# Altium footprint library leonLib.PcbLib: 249 footprints (part 4 of 16)
Each footprint in its own frame and in the unit in brackets; x right, y up, seen from the top. Pads: shape width x height; smd on the part's side, far side on the other; paste and mask are expansions set on the pad; w line width, h text height; cw(c..) or ccw(c..) is an arc to the next point about the centre after c.
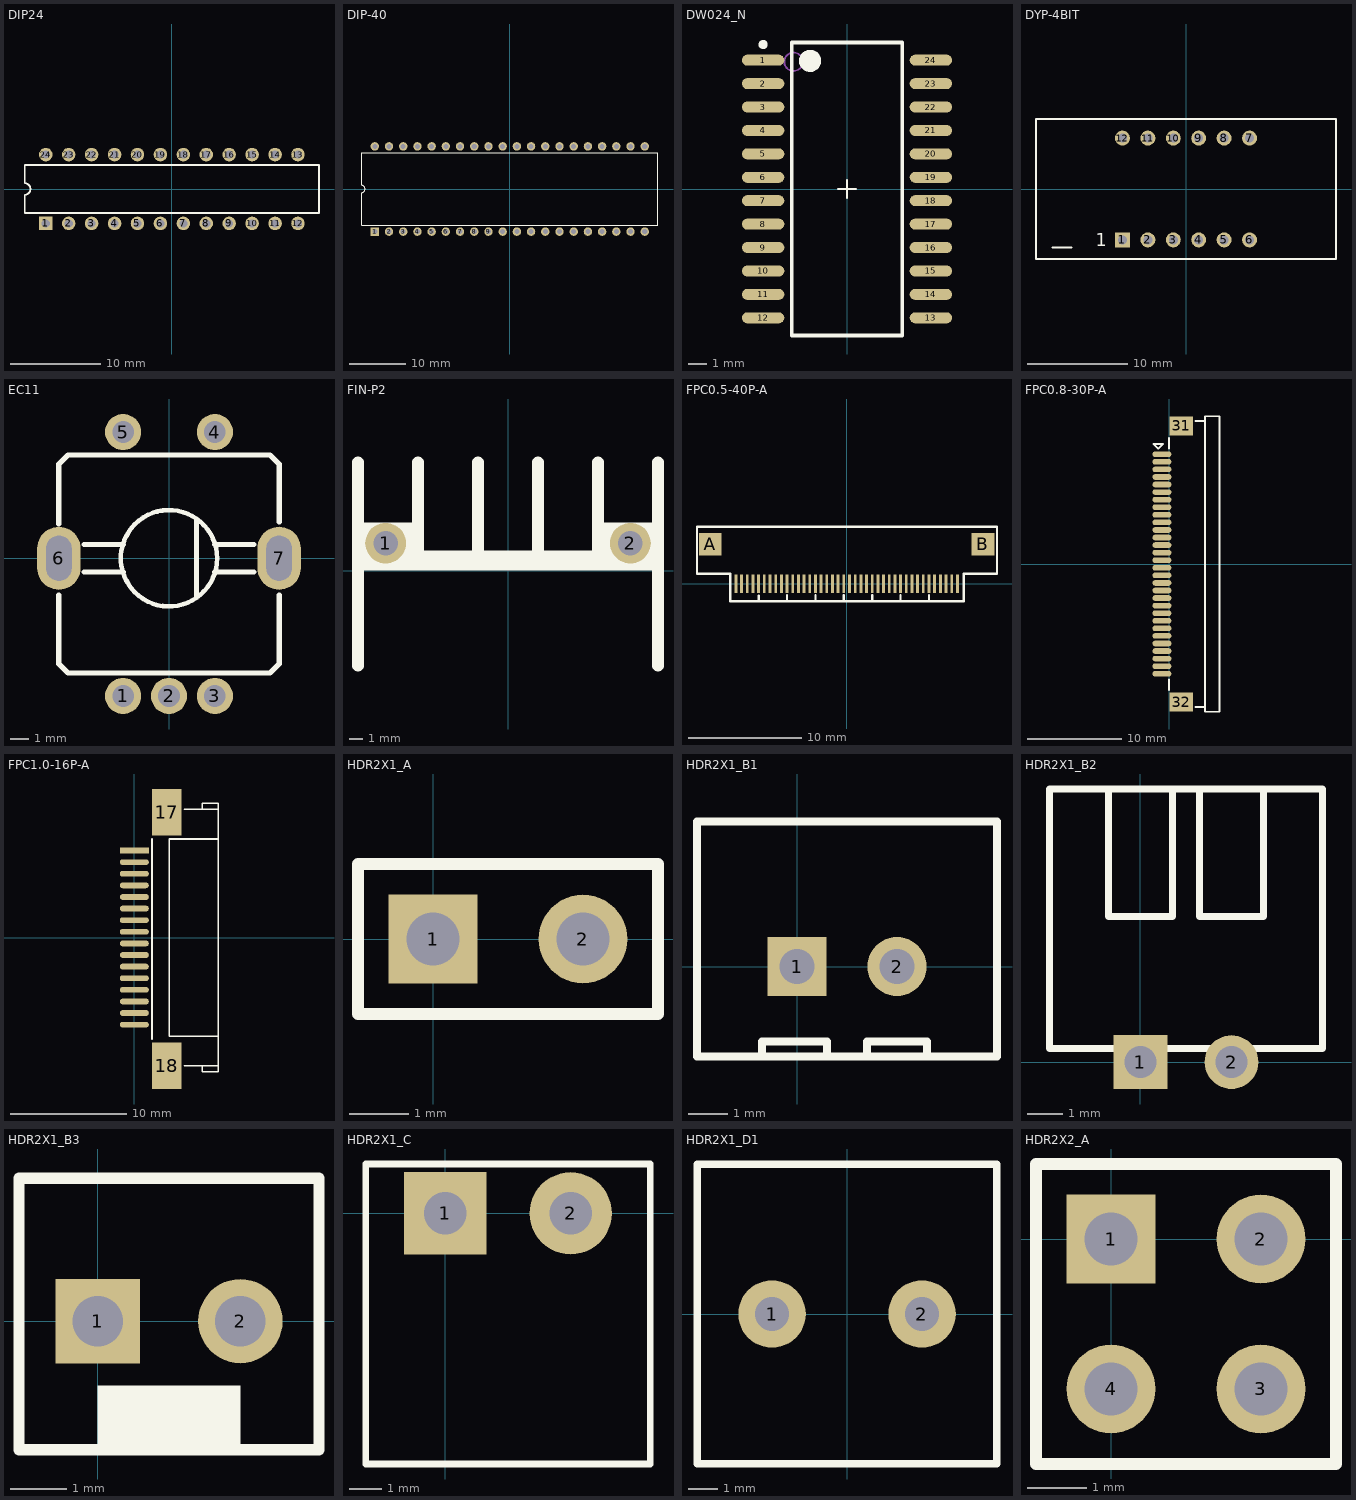
[diagram p3: the footprints below, top view; thin cyan lines are the x and y axes]

## DIP24 [mm] "DIP; 24,74ls154"
height 5.08
pads (24):
  rect 1.5x1.5 hole 0.9: 1(-13.97,-3.81)
  round 1.5 hole 0.9: 2(-11.43,-3.81) 3(-8.89,-3.81) 4(-6.35,-3.81) 5(-3.81,-3.81) 6(-1.27,-3.81) 7(1.27,-3.81) 8(3.81,-3.81) 9(6.35,-3.81) 10(8.89,-3.81) 11(11.43,-3.81) 12(13.97,-3.81) 13(13.97,3.81) 14(11.43,3.81) 15(8.89,3.81) 16(6.35,3.81) 17(3.81,3.81) 18(1.27,3.81) 19(-1.27,3.81) 20(-3.81,3.81) 21(-6.35,3.81) 22(-8.89,3.81) 23(-11.43,3.81) 24(-13.97,3.81)
Top Overlay:
  lines w0.2: -16.3,-2.65 -16.3,-0.635 ccw(c-16.3,0) -16.3,0.635 -16.3,2.65 16.3,2.65 16.3,-2.65 -16.3,-2.65

## DIP-40 [mm] "51单片机"
height 4.7
pads (40):
  rect 1.5x1.5 hole 0.9: 1(-24.13,-7.62)
  round 1.5 hole 0.9: 2(-21.59,-7.62) 3(-19.05,-7.62) 4(-16.51,-7.62) 5(-13.97,-7.62) 6(-11.43,-7.62) 7(-8.89,-7.62) 8(-6.35,-7.62) 9(-3.81,-7.62) 10(-1.27,-7.62) 11(1.27,-7.62) 12(3.81,-7.62) 13(6.35,-7.62) 14(8.89,-7.62) 15(11.43,-7.62) 16(13.97,-7.62) 17(16.51,-7.62) 18(19.05,-7.62) 19(21.59,-7.62) 20(24.13,-7.62) 21(24.13,7.62) 22(21.59,7.62) 23(19.05,7.62) 24(16.51,7.62) 25(13.97,7.62) 26(11.43,7.62) 27(8.89,7.62) 28(6.35,7.62) 29(3.81,7.62) 30(1.27,7.62) 31(-1.27,7.62) 32(-3.81,7.62) 33(-6.35,7.62) 34(-8.89,7.62) 35(-11.43,7.62) 36(-13.97,7.62) 37(-16.51,7.62) 38(-19.05,7.62) 39(-21.59,7.62) 40(-24.13,7.62)
Top Overlay:
  lines w0.2: -26.5,-6.45 26.5,-6.45 26.5,6.45 -26.5,6.45 -26.5,0.635 cw(c-26.5,0) -26.5,-0.635 -26.5,-6.45

## DW024_N [mm] "74hc154"
height 2.65
pads (24):
  oval 2.3x0.6 smd: 1(-4.55,6.985) 2(-4.55,5.715) 3(-4.55,4.445) 4(-4.55,3.175) 5(-4.55,1.905) 6(-4.55,0.635) 7(-4.55,-0.635) 8(-4.55,-1.905) 9(-4.55,-3.175) 10(-4.55,-4.445) 11(-4.55,-5.715) 12(-4.55,-6.985) 13(4.55,-6.985) 14(4.55,-5.715) 15(4.55,-4.445) 16(4.55,-3.175) 17(4.55,-1.905) 18(4.55,-0.635) 19(4.55,0.635) 20(4.55,1.905) 21(4.55,3.175) 22(4.55,4.445) 23(4.55,5.715) 24(4.55,6.985)
Top Overlay:
  circle w0.25: c-4.55,7.835 r0.125
  circle w0.6: c-2,6.95 r0.3
  lines w0.1: -0.5,0 0.5,0 ; 0,-0.5 0,0.5
  lines w0.2: -3,-7.95 -3,7.95 3,7.95 3,-7.95 -3,-7.95
Mechanical 13:
  circle w0.1: c-2.9,6.9 r0.5
3D body: height 2.65, standoff 0, extent -3.8,-7.8 3.8,7.8

## DYP-4BIT [mm] "数码管"
height 1.2
pads (12):
  rect 1.5x1.5 hole 0.9: 1(-6.35,-5.08)
  round 1.5 hole 0.9: 2(-3.81,-5.08) 3(-1.27,-5.08) 4(1.27,-5.08) 5(3.81,-5.08) 6(6.35,-5.08) 7(6.35,5.08) 8(3.81,5.08) 9(1.27,5.08) 10(-1.27,5.08) 11(-3.81,5.08) 12(-6.35,5.08)
Top Overlay:
  lines w0.2: -13.335,-5.842 -11.43,-5.842 ; -14.986,-6.985 14.986,-6.985 14.986,6.985 -14.986,6.985 -14.986,-6.985
  text "1" at -9.017,-5.715 h1.27

## EC11 [mm]
pads (7):
  round 2 hole 1.2: 1(-2.54,-7.62) 2(0,-7.62) 3(2.54,-7.62) 4(2.54,6.985) 5(-2.54,6.985)
  oval 2.4x3.5 hole 1.4 slot 2.5 at 90 deg: 6(-6.096,0) 7(6.096,0)
Top Overlay:
  circle w0.254: c0,0 r2.667
  lines w0.3: -6.096,-2.032 -6.096,-5.842 -5.588,-6.35 5.588,-6.35 6.096,-5.842 6.096,-2.032 ; -6.096,1.905 -6.096,5.207 -5.588,5.715 5.588,5.715 6.096,5.207 6.096,2.032 ; -4.699,-0.762 -2.54,-0.762 ; -4.699,0.762 -2.54,0.762 ; 1.524,-2.159 1.524,2.159 ; 2.54,-0.762 4.699,-0.762 ; 2.54,0.762 4.699,0.762

## FIN-P2 [mm] "散热片"
height 1.9
pads (2):
  round 3 hole 1.8: 1(-9.017,2.032) 2(9.017,2.032)
Top Overlay:
  rectangle: 6.629,1.27 11.049,3.556
  rectangle: -11.049,0.889 -6.629,3.556
  lines w0.85: -11.049,-7 -11.049,8 ; -6.629,0.762 -6.629,8.001 ; -2.21,0.762 -2.21,8.001 ; 2.21,0.762 2.21,8.001 ; 6.629,0.762 6.629,8.001 ; 11.049,-7 11.049,8
  lines w1.5: -10.668,0.762 10.668,0.762

## FPC0.5-40P-A [mm]
height 1
pads (42):
  rect 0.25x1.6 smd: 1(-9.78,0.011) 2(-9.28,0.011) 3(-8.78,0.011) 4(-8.28,0.011) 5(-7.78,0.011) 6(-7.28,0.011) 7(-6.78,0.011) 8(-6.28,0.011) 9(-5.78,0.011) 10(-5.28,0.011) 11(-4.78,0.011) 12(-4.28,0.011) 13(-3.78,0.011) 14(-3.28,0.011) 15(-2.78,0.011) 16(-2.28,0.011) 17(-1.78,0.011) 18(-1.28,0.011) 19(-0.78,0.011) 20(-0.28,0.011) 21(0.22,0.011) 22(0.72,0.011) 23(1.22,0.011) 24(1.72,0.011) 25(2.22,0.011) 26(2.72,0.011) 27(3.22,0.011) 28(3.72,0.011) 29(4.22,0.011) 30(4.72,0.011) 31(5.22,0.011) 32(5.72,0.011) 33(6.22,0.011) 34(6.72,0.011) 35(7.22,0.011) 36(7.72,0.011) 37(8.22,0.011) 38(8.72,0.011) 39(9.22,0.011) 40(9.72,0.011)
  rect 2x2 smd: A(-12.029,3.5) B(11.971,3.5)
Top Overlay:
  lines w0.2: -10.287,-1.524 -10.287,0.889 -13.208,0.889 -13.208,5.036 13.208,5.036 13.208,1.27 13.208,0.889 10.287,0.889 10.287,-1.514 -10.287,-1.514 ; -7.78,-1.514 -7.78,-1.014 ; -5.28,-1.514 -5.28,-0.989 ; -2.78,-1.489 -2.78,-0.989 ; -0.28,-1.464 -0.28,-0.964 ; 2.22,-1.464 2.22,-0.964 ; 4.72,-1.464 4.72,-0.964 ; 7.22,-1.464 7.22,-0.964

## FPC0.8-30P-A [mm] "FPC"
height 1.2
pads (32):
  oval 2x0.6 smd: 1(-0.762,11.6) 2(-0.762,10.8) 3(-0.762,10) 4(-0.762,9.2) 5(-0.762,8.4) 6(-0.762,7.6) 7(-0.762,6.8) 8(-0.762,6) 9(-0.762,5.2) 10(-0.762,4.4) 11(-0.762,3.6) 12(-0.762,2.8) 13(-0.762,2) 14(-0.762,1.2) 15(-0.762,0.4) 16(-0.762,-0.4) 17(-0.762,-1.2) 18(-0.762,-2) 19(-0.762,-2.8) 20(-0.762,-3.6) 21(-0.762,-4.4) 22(-0.762,-5.2) 23(-0.762,-6) 24(-0.762,-6.8) 25(-0.762,-7.6) 26(-0.762,-8.4) 27(-0.762,-9.2) 28(-0.762,-10) 29(-0.762,-10.8) 30(-0.762,-11.6)
  rect 2.5x2 smd: 31(1.27,14.605) 32(1.27,-14.605)
Top Overlay:
  lines w0.2: 0,-13.335 0,-12.192 ; 0,12.192 0,13.335 ; 2.794,-15.113 3.81,-15.113 ; 2.794,15.113 3.81,15.113 ; 3.81,-15.113 3.81,-15.621 5.334,-15.621 5.334,15.621 3.81,15.621 3.81,15.113 ; 3.81,-15.113 3.81,15.113 ; -1.651,12.7 -1.524,12.7 -0.635,12.7 -1.143,12.192 -1.651,12.7

## FPC1.0-16P-A [mm] "FPC"
height 1.2
pads (18):
  rect 2.5x0.5 smd: 1(0,7.493)
  oval 2.5x0.5 smd: 2(0,6.493) 3(0,5.493) 4(0,4.493) 5(0,3.493) 6(0,2.493) 7(0,1.493) 8(0,0.493) 9(0,-0.507) 10(0,-1.507) 11(0,-2.507) 12(0,-3.507) 13(0,-4.507) 14(0,-5.507) 15(0,-6.507) 16(0,-7.507)
  rect 2.5x4 smd: 17(2.794,10.795) 18(2.794,-11.049)
Top Overlay:
  lines w0.15: 1.524,-8.763 1.524,8.509 ; 4.318,-11.049 7.224,-11.049 ; 4.318,11.049 7.224,11.049 ; 5.842,11.049 5.842,11.557 7.224,11.557 7.224,11.049 ; 6.096,-11.049 5.842,-11.049 5.842,-11.557 7.224,-11.557 7.224,-11.049 ; 7.224,-8.507 3,-8.507 3,8.493 7.224,8.493 ; 7.224,-11.049 7.224,11.049

## HDR2X1_A [mm] "Connector; Header; 2 Position"
height 7.01
pads (2):
  rect 1.5x1.5 hole 0.9: 1(0,0)
  round 1.5 hole 0.9: 2(2.54,0)
Top Overlay:
  lines w0.2: -1.27,-1.27 -1.27,1.27 3.81,1.27 3.81,-1.27 -1.27,-1.27

## HDR2X1_B1 [mm] "Connector; Header; 4 Position"
height 1.6
pads (2):
  rect 1.5x1.5 hole 0.9: 1(0,0)
  round 1.5 hole 0.9: 2(2.54,0)
Top Overlay:
  lines w0.2: -0.889,-2.286 -0.889,-1.905 0.762,-1.905 0.762,-2.286 ; 1.778,-2.286 1.778,-1.905 3.302,-1.905 3.302,-2.286 ; -2.54,-2.286 -2.54,3.683 5.08,3.683 5.08,-2.286 -2.54,-2.286
3D body: height 1.5, standoff 0, extent -2.413,-2.159 5.08,3.556

## HDR2X1_B2 [mm] "Connector; Header; 4 Position"
height 1.6
pads (2):
  rect 1.5x1.5 hole 0.9: 1(0,0)
  round 1.5 hole 0.9: 2(2.54,0)
Top Overlay:
  lines w0.2: -0.889,7.62 -0.889,4.064 0.889,4.064 0.889,7.62 ; 1.651,7.62 1.651,4.064 3.429,4.064 3.429,7.62 ; -2.54,0.381 5.08,0.381 5.08,7.62 -2.54,7.62 -2.54,0.381
3D body: height 1.5, standoff 0, extent -2.54,0.381 5.08,7.62

## HDR2X1_B3 [mm] "Connector; Header; 4 Position"
height 1.6
pads (2):
  rect 1.5x1.5 hole 0.9: 1(0,0)
  round 1.5 hole 0.9: 2(2.54,0)
Top Overlay:
  rectangle: 0,-2.286 2.54,-1.143
  lines w0.2: -1.397,-2.286 -1.397,2.54 3.937,2.54 3.937,-2.286 -1.397,-2.286
3D body: height 1.5, standoff 0, extent -1.397,-2.286 3.937,2.54

## HDR2X1_C [mm] "3.81接插件"
height 7
pads (2):
  rect 2.5x2.5 hole 1.3: 1(0,0)
  round 2.5 hole 1.3: 2(3.81,0)
Top Overlay:
  lines w0.2: -2.413,-7.62 -2.413,1.5 6.223,1.5 6.223,-7.62 -2.413,-7.62
3D body: height 5, standoff 0, extent -2.413,-7.62 6.223,1.397

## HDR2X1_D1 [mil] "5.08mm端子"
height 500
pads (2):
  round 90 hole 45: 1(-100,0) 2(100,0)
Top Overlay:
  lines w10: -200,-200 200,-200 200,200 -200,200 -200,-200

## HDR2X2_A [mm] "Connector; Header; 2 Position"
height 7.01
pads (4):
  rect 1.5x1.5 hole 0.9: 1(0,0)
  round 1.5 hole 0.9: 2(2.54,0) 3(2.54,-2.54) 4(0,-2.54)
Top Overlay:
  lines w0.2: -1.27,-3.81 -1.27,1.27 3.81,1.27 3.81,-3.81 -1.27,-3.81